# Altium schematic symbol library U_DCDC_ISO_5Pin.Schlib: 1 symbol
Pins are listed as number, name and electrical type; pins without a type are passive.

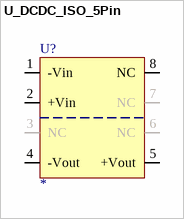
[diagram p0: symbol U_DCDC_ISO_5Pin]

## U_DCDC_ISO_5Pin
designator U?
pins: 1 -Vin, 2 +Vin, 3 NC, 4 -Vout, 5 +Vout, 6 NC, 7 NC, 8 NC